# Altium schematic symbol library Schlib_Krip_Techno.SchLib: 1 symbol
Pins are listed as number, name and electrical type; pins without a type are passive.

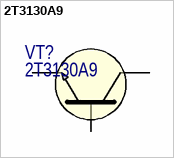
[diagram p0: symbol 2T3130A9]

## 2T3130A9
designator VT?
Транзистор NPN; Manufacturer: ООО "КРИП Техно"; Part Number: 2T3130A9; ТУ: *
footprint KT-46A
pins: 1 B, 2 E, 3 C